# EAGLE library part TY-250P (library trafo-triad)
AUDIO TRANSFORMER
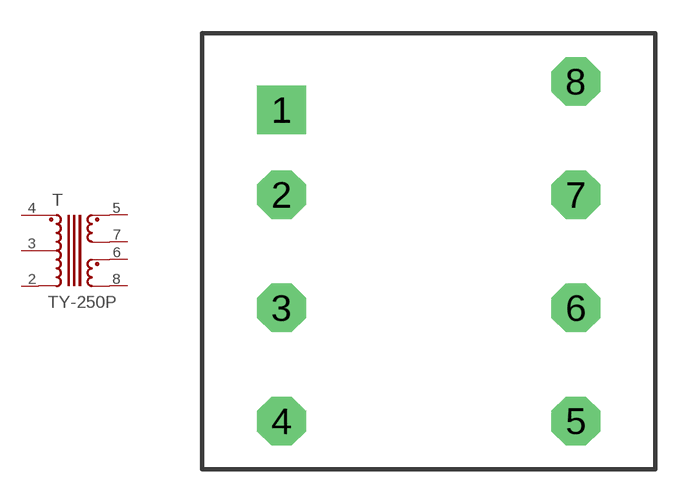
[diagram p11: symbol with the pads of TY-250P; footprint TY-250P]

Designator prefix T

## TY-250P  [TY-250P]
2  2  pas
3  3  pas
4  4  pas
5  5  pas
6  6  pas
7  7  pas
8  8  pas

## Footprint TY-250P (pad centres in mm)
Audio Transformer
drill 1.016 pad 2.184 square: 1 -6.604,6.35
drill 1.016 pad 2.184 octagon: 2 -6.604,2.54; 3 -6.604,-2.54; 4 -6.604,-7.62; 5 6.604,-7.62; 6 6.604,-2.54; 7 6.604,2.54; 8 6.604,7.62